# Altium footprint library TQFP32.PcbLib: 2 footprints
Each footprint in its own frame and in the unit in brackets; x right, y up, seen from the top. Pads: shape width x height; smd on the part's side, far side on the other; paste and mask are expansions set on the pad; w line width, h text height; cw(c..) or ccw(c..) is an arc to the next point about the centre after c.
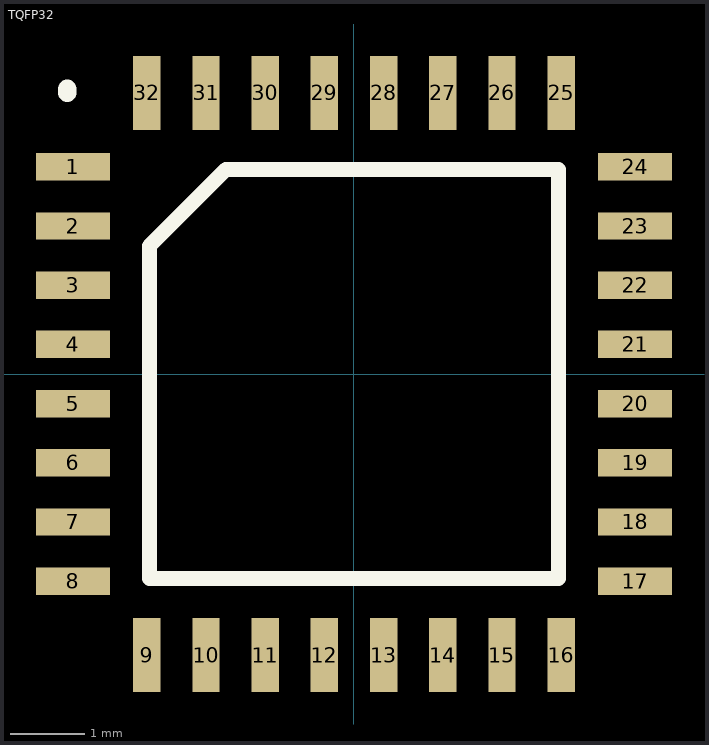
[diagram p0: the footprints below, top view; thin cyan lines are the x and y axes]

## PCBComponent_1 [mm]

## TQFP32 [mm]
pads (32):
  rect 1x0.37 smd: 1(-3.8,2.8) 2(-3.8,2) 3(-3.8,1.2) 4(-3.8,0.4) 5(-3.8,-0.4) 6(-3.8,-1.2) 7(-3.8,-2) 8(-3.8,-2.8) 17(3.8,-2.8) 18(3.8,-2) 19(3.8,-1.2) 20(3.8,-0.4) 21(3.8,0.4) 22(3.8,1.2) 23(3.8,2) 24(3.8,2.8)
  rect 0.37x1 smd: 9(-2.8,-3.8) 10(-2,-3.8) 11(-1.2,-3.8) 12(-0.4,-3.8) 13(0.4,-3.8) 14(1.2,-3.8) 15(2,-3.8) 16(2.8,-3.8) 25(2.8,3.8) 26(2,3.8) 27(1.2,3.8) 28(0.4,3.8) 29(-0.4,3.8) 30(-1.2,3.8) 31(-2,3.8) 32(-2.8,3.8)
Top Overlay:
  lines w0.2: -2.765,-2.765 -2.765,1.73 -1.73,2.765 2.765,2.765 2.765,-2.765 -2.765,-2.765
  lines w0.254: -3.875,3.8 -3.875,3.85
3D body "User Library-TQFP32-1.step": height 1.1, standoff 0, extent -4.509,-4.509 4.509,4.509